# EAGLE library part GSB4116341HR (library EXCISS)
GSB412137CHR USB 3.1 Connector, Type A, Receptacle, Through Hole Links Datasheet <http://www.mouser.com/ds/2/18/Amphenol_GSB412137CHR-AX1-527777.pdf>
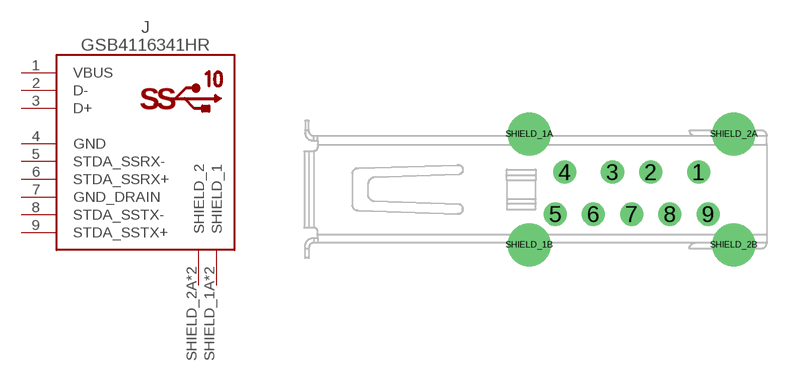
[diagram p7: symbol with the pads of GSB4116341HR; footprint GSB4116341HR]

Designator prefix J

## GSB4116341HR  [GSB4116341HR]
1  VBUS
2  D-
3  D+
4  GND
5  STDA_SSRX-
6  STDA_SSRX+
7  GND_DRAIN
8  STDA_SSTX-
9  STDA_SSTX+
SHIELD_1A  SHIELD_1  pas
SHIELD_1B  SHIELD_1  pas
SHIELD_2A  SHIELD_2  pas
SHIELD_2B  SHIELD_2  pas

## Footprint GSB4116341HR (pad centres in mm)
drill 0.7: 1 20.63,0.9; 2 18.13,0.9; 3 16.13,0.9; 4 13.63,0.9; 5 13.13,-1.3; 6 15.13,-1.3; 7 17.13,-1.3; 8 19.13,-1.3; 9 21.13,-1.3
drill 1.5: SHIELD_1A 11.78,2.9; SHIELD_1B 11.78,-2.9; SHIELD_2A 22.48,2.9; SHIELD_2B 22.48,-2.9